# Altium schematic symbol library displayLCD.SchLib: 3 symbols
Pins are listed as number, name and electrical type; pins without a type are passive.

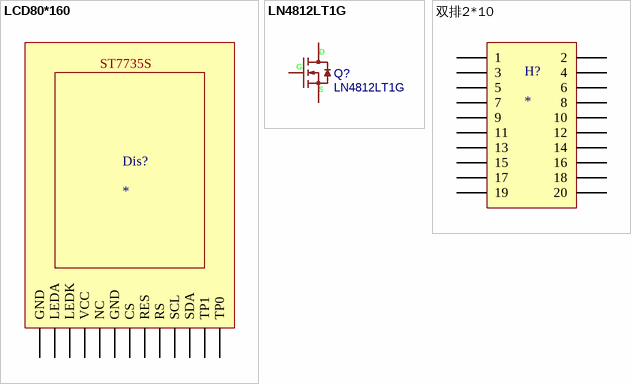
[diagram p0: symbols LCD80*160 to 双排2*10]

## LCD80*160
designator Dis?
pins: 1 TP0, 2 TP1, 3 SDA, 4 SCL, 5 RS, 6 RES, 7 CS, 8 GND, 9 NC, 10 VCC, 11 LEDK, 12 LEDA, 13 GND
text: ST7735S

## LN4812LT1G
designator Q?
BOM_Manufacturer: LRC(乐山无线电); Contributor: LCSC; BOM_Supplier: LCSC; BOM_Supplier Part: C559076; BOM_Manufacturer Part: LN4812LT1G; BOM_JLCPCB Part Class: Extended Part; spicePre: Q; spiceSymbolName: LN4812LT1G
footprint SOT-23-3_L2.9-W1.3-P1.90-LS2.4-BR
pins: 1 G, 2 S, 3 D

## 双排2*10
designator H?
pins: 1, 2, 3, 4, 5, 6, 7, 8, 9, 10, 11, 12, 13, 14, 15, 16, 17, 18, 19, 20